# EAGLE library part ADR3430ARJZ-R2 (library SpectroLib)
Voltage References
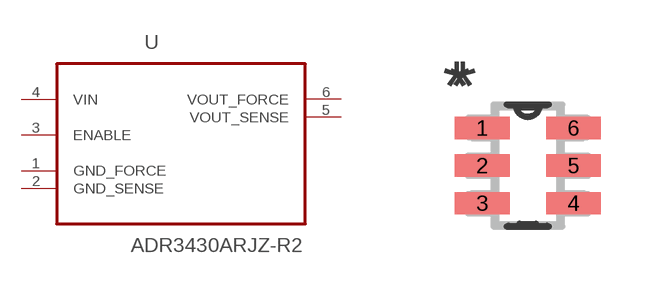
[diagram p3: symbol with the pads of SOT95P280X145-6N; footprint SOT95P280X145-6N]

Designator prefix U

## ADR3430ARJZ-R2 (MPN: ADR3430ARJZ-R2; OC_FARNELL: 1899425; OC_NEWARK: 76R7580; PACKAGE: SOT23-6; SUPPLIER: Analog Devices)  [SOT95P280X145-6N]
1  GND_FORCE  pas
2  GND_SENSE  pas
3  ENABLE  in
4  VIN  in
5  VOUT_SENSE  out
6  VOUT_FORCE  out

## Footprint SOT95P280X145-6N (pad centres in mm)
smd 1.372 x 0.559: 1 -1.143,0.94; 2 -1.143,0; 3 -1.143,-0.94; 4 1.143,-0.94; 5 1.143,0; 6 1.143,0.94